# EAGLE library part WEMOS_D1_MINI_FOOTPRINT (library SW_Microcontroller)
ESP8266 development board
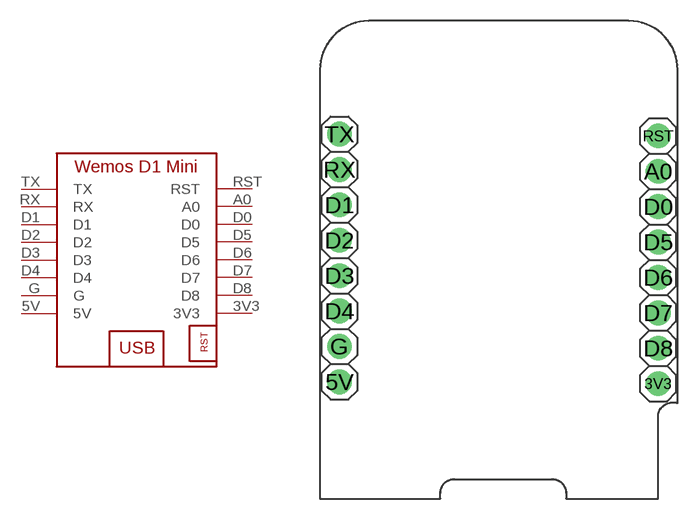
[diagram p5: symbol with the pads of WEMOS_D1_MINI_FOOTPRINT; footprint WEMOS_D1_MINI_FOOTPRINT]

Designator prefix B

## WEMOS_D1_MINI_FOOTPRINT (CATEGORY: Microcontroller; DESCRIPTION: A mini wifi board with 4MB flash based on ESP-8266EX; MFGS: Lolin; MPNS: Wemos D1 Mini)  [WEMOS_D1_MINI_FOOTPRINT]
3V3  3V3
5V  5V
A0  A0
D0  D0
D1  D1
D2  D2
D3  D3
D4  D4
D5  D5
D6  D6
D7  D7
D8  D8
G  G
RST  RST
RX  RX
TX  TX

## Footprint WEMOS_D1_MINI_FOOTPRINT (pad centres in mm)
https://docs.wemos.cc/en/latest/d1/d1_mini.html
drill 1.016 pad 1.778: 3V3 24.257,8.255; 5V 1.397,8.382; A0 24.257,23.495; D0 24.257,20.955; D1 1.397,21.082; D2 1.397,18.542; D3 1.397,16.002; D4 1.397,13.462; D5 24.257,18.415; D6 24.257,15.875; D7 24.257,13.335; D8 24.257,10.795; G 1.397,10.922; RST 24.257,26.035; RX 1.397,23.622; TX 1.397,26.162